# EAGLE library part QT1081 (library qtouch)
The QTouch QT1081 chip from Atmel - Formerly from Quantum Research Group - Pretty simple: You connect properly sized copper pads to the pins as shown in the datasheet, and you get eight logic level outputs. - Digikey: 427-1127-1-ND
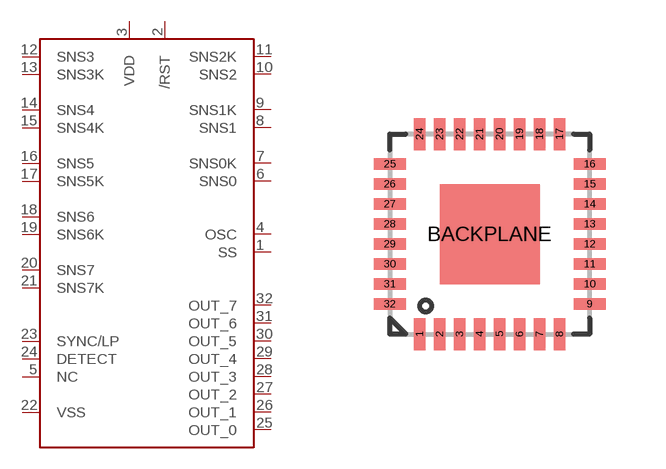
[diagram p0: symbol with the pads of QFN-32; footprint QFN-32]

Designator prefix -

## QT1081  [QFN-32]
1  SS  pas
2  /RST  in
3  VDD  sup
4  OSC  pas
5  NC  nc
6  SNS0  pas
7  SNS0K  pas
8  SNS1  pas
9  SNS1K  pas
10  SNS2  pas
11  SNS2K  pas
12  SNS3  pas
13  SNS3K  pas
14  SNS4  pas
15  SNS4K  pas
16  SNS5  pas
17  SNS5K  pas
18  SNS6  pas
19  SNS6K  pas
20  SNS7  pas
21  SNS7K  pas
22  VSS  sup
23  SYNC/LP  in
24  DETECT  out
25  OUT_0  out
26  OUT_1  out
27  OUT_2  out
28  OUT_3  out
29  OUT_4  out
30  OUT_5  out
31  OUT_6  out
32  OUT_7  out

## Footprint QFN-32 (pad centres in mm)
smd 0.285 x 0.8: 1 -1.75,-2.5; 2 -1.25,-2.5; 3 -0.75,-2.5; 4 -0.25,-2.5; 5 0.25,-2.5; 6 0.75,-2.5; 7 1.25,-2.5; 8 1.75,-2.5; 17 1.75,2.5; 18 1.25,2.5; 19 0.75,2.5; 20 0.25,2.5; 21 -0.25,2.5; 22 -0.75,2.5; 23 -1.25,2.5; 24 -1.75,2.5
smd 0.8 x 0.285: 9 2.5,-1.75; 10 2.5,-1.25; 11 2.5,-0.75; 12 2.5,-0.25; 13 2.5,0.25; 14 2.5,0.75; 15 2.5,1.25; 16 2.5,1.75; 25 -2.5,1.75; 26 -2.5,1.25; 27 -2.5,0.75; 28 -2.5,0.25; 29 -2.5,-0.25; 30 -2.5,-0.75; 31 -2.5,-1.25; 32 -2.5,-1.75
smd 2.5 x 2.5: BACKPLANE 0,0